# EAGLE library part TPIC6A596DW (library Eagle3D-IC_Shift_Register)
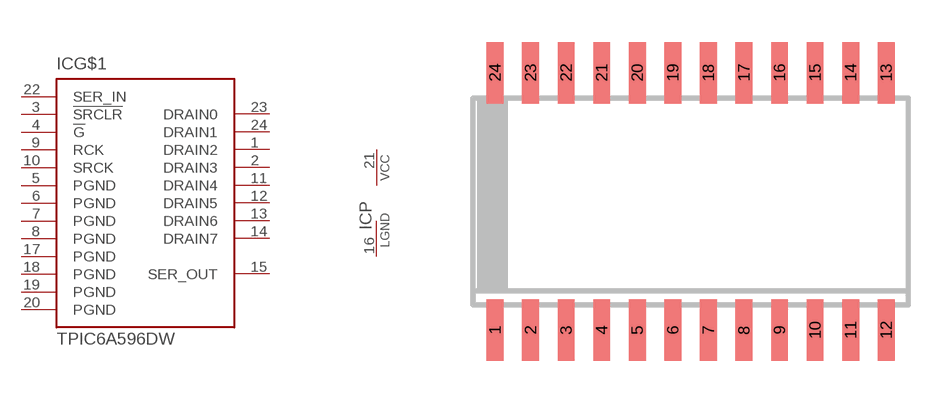
[diagram p1: symbol with the pads of SO24W; footprint SO24W]

Designator prefix IC; gates G$1=TPIC6ADW P=PWR_PINS-VCC_LGND

## TPIC6A596DW  [SO24W]
1  G$1:DRAIN2
2  G$1:DRAIN3
3  G$1:!SRCLR
4  G$1:!G
5  G$1:PGND
6  G$1:PGND
7  G$1:PGND
8  G$1:PGND
9  G$1:RCK
10  G$1:SRCK
11  G$1:DRAIN4
12  G$1:DRAIN5
13  G$1:DRAIN6
14  G$1:DRAIN7
15  G$1:SER_OUT
16  P:LGND  pwr
17  G$1:PGND
18  G$1:PGND
19  G$1:PGND
20  G$1:PGND
21  P:VCC  pwr
22  G$1:SER_IN
23  G$1:DRAIN0
24  G$1:DRAIN1

## Footprint SO24W (pad centres in mm)
SMALL OUTLINE INTEGRATED CIRCUIT wide body 7.5 mm/JEDEC MO-119AA Source: http://www.atmel.com/dyn/resources/prod_documents/doc4126.pdf
smd 0.6 x 2.2: 1 -7.62,-4.6; 2 -6.35,-4.6; 3 -5.08,-4.6; 4 -3.81,-4.6; 5 -2.54,-4.6; 6 -1.27,-4.6; 7 0,-4.6; 8 1.27,-4.6; 9 2.54,-4.6; 10 3.81,-4.6; 11 5.08,-4.6; 12 6.35,-4.6; 13 6.35,4.6; 14 5.08,4.6; 15 3.81,4.6; 16 2.54,4.6; 17 1.27,4.6; 18 0,4.6; 19 -1.27,4.6; 20 -2.54,4.6; 21 -3.81,4.6; 22 -5.08,4.6; 23 -6.35,4.6; 24 -7.62,4.6